# EAGLE library part TEENSY_36 (library misc_luke)
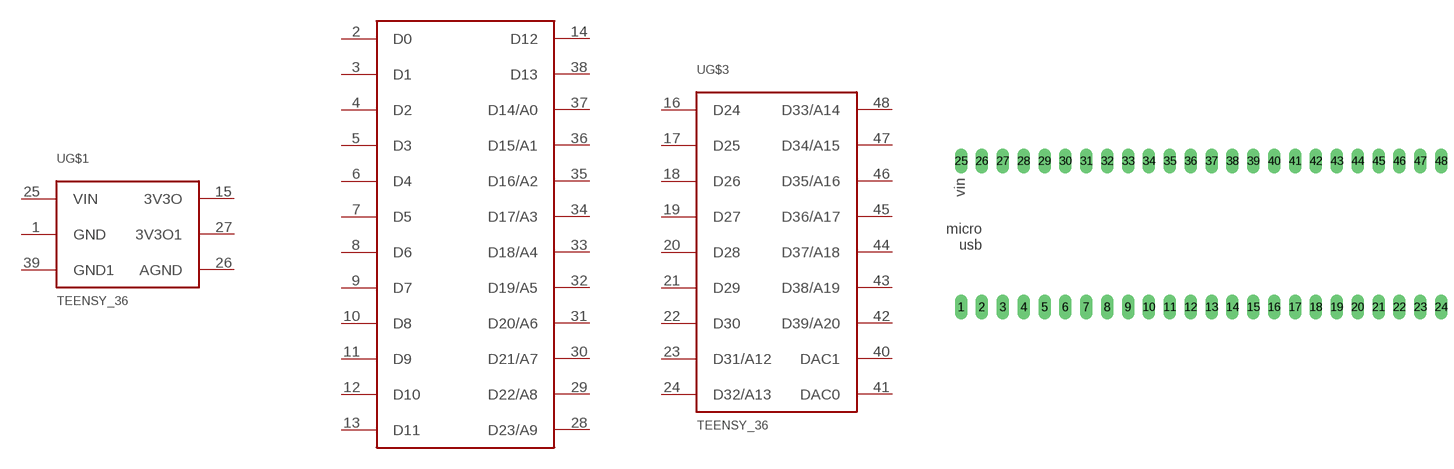
[diagram p0: symbol with the pads of TEENSY36; footprint TEENSY36]

Designator prefix -; gates G$1=TEENSY_POWER G$2=TEENSY_DATA1 G$3=TEENSY_DATA2

## TEENSY_36  [TEENSY36]
1  G$1:GND
2  G$2:D0
3  G$2:D1
4  G$2:D2
5  G$2:D3
6  G$2:D4
7  G$2:D5
8  G$2:D6
9  G$2:D7
10  G$2:D8
11  G$2:D9
12  G$2:D10
13  G$2:D11
14  G$2:D12
15  G$1:3V3O
16  G$3:D24
17  G$3:D25
18  G$3:D26
19  G$3:D27
20  G$3:D28
21  G$3:D29
22  G$3:D30
23  G$3:D31/A12
24  G$3:D32/A13
25  G$1:VIN
26  G$1:AGND
27  G$1:3V3O1
28  G$2:D23/A9
29  G$2:D22/A8
30  G$2:D21/A7
31  G$2:D20/A6
32  G$2:D19/A5
33  G$2:D18/A4
34  G$2:D17/A3
35  G$2:D16/A2
36  G$2:D15/A1
37  G$2:D14/A0
38  G$2:D13
39  G$1:GND1
40  G$3:DAC1
41  G$3:DAC0
42  G$3:D39/A20
43  G$3:D38/A19
44  G$3:D37/A18
45  G$3:D36/A17
46  G$3:D35/A16
47  G$3:D34/A15
48  G$3:D33/A14

## Footprint TEENSY36 (pad centres in mm)
drill 1.016 long: 1 -25.4,-8.89; 2 -22.86,-8.89; 3 -20.32,-8.89; 4 -17.78,-8.89; 5 -15.24,-8.89; 6 -12.7,-8.89; 7 -10.16,-8.89; 8 -7.62,-8.89; 9 -5.08,-8.89; 10 -2.54,-8.89; 11 0,-8.89; 12 2.54,-8.89; 13 5.08,-8.89; 14 7.62,-8.89; 15 10.16,-8.89; 16 12.7,-8.89; 17 15.24,-8.89; 18 17.78,-8.89; 19 20.32,-8.89; 20 22.86,-8.89; 21 25.4,-8.89; 22 27.94,-8.89; 23 30.48,-8.89; 24 33.02,-8.89; 25 -25.4,8.89; 26 -22.86,8.89; 27 -20.32,8.89; 28 -17.78,8.89; 29 -15.24,8.89; 30 -12.7,8.89; 31 -10.16,8.89; 32 -7.62,8.89; 33 -5.08,8.89; 34 -2.54,8.89; 35 0,8.89; 36 2.54,8.89; 37 5.08,8.89; 38 7.62,8.89; 39 10.16,8.89; 40 12.7,8.89; 41 15.24,8.89; 42 17.78,8.89; 43 20.32,8.89; 44 22.86,8.89; 45 25.4,8.89; 46 27.94,8.89; 47 30.48,8.89; 48 33.02,8.89